# Altium footprint library RC.PcbLib: 63 footprints (part 2 of 4)
Each footprint in its own frame and in the unit in brackets; x right, y up, seen from the top. Pads: shape width x height; smd on the part's side, far side on the other; paste and mask are expansions set on the pad; w line width, h text height; cw(c..) or ccw(c..) is an arc to the next point about the centre after c.
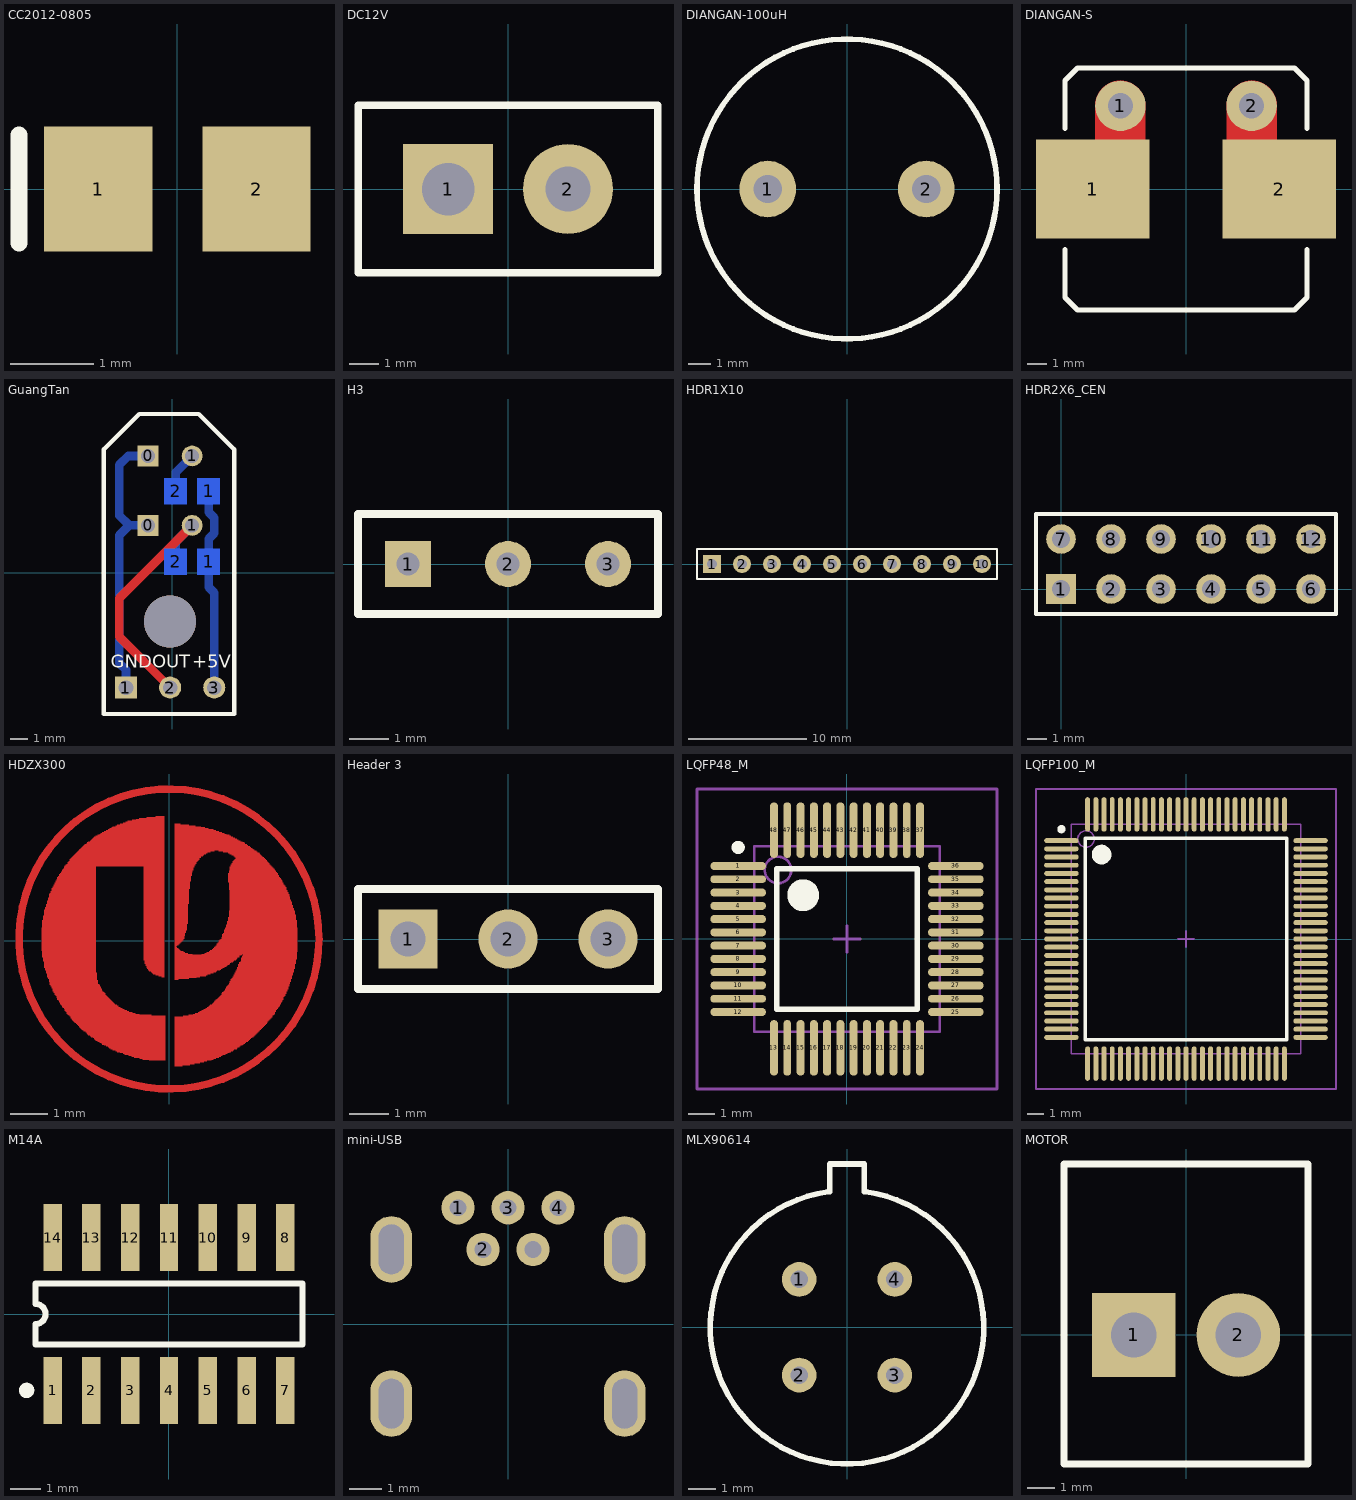
[diagram p1: the footprints below, top view; thin cyan lines are the x and y axes]

## CC2012-0805 [mm]
pads (2):
  rect 1.3x1.5 smd: 1(-0.95,0) 2(0.95,0)
Top Overlay:
  lines w0.2: -1.9,-0.65 -1.9,0.65

## DC12V [mil]
pads (2):
  rect 120x120 hole 70: 1(-80,0)
  round 120 hole 60: 2(80,0)
Top Overlay:
  lines w10: -200,-112 200,-112 200,112 -200,112 -200,-112

## DIANGAN-100uH [mil]
pads (2):
  round 100 hole 50: 1(-140,0) 2(140,0)
Top Overlay:
  circle w10: c0,0 r265

## DIANGAN-S [mil]
pads (4):
  rect 225x196.85 smd: 1(-185,0) 2(185,0)
  round 100 hole 50: 1(-130,165) 2(130,165)
Top Layer:
  lines w100: -130,0 -130,165 ; 130,0 130,165
Top Overlay:
  lines w10: -240,-120 -240,-215 -215,-240 215,-240 240,-215 240,-120 ; -240,120 -240,215 -215,240 215,240 240,215 240,120

## GuangTan [mm]
pads (11):
  rect 1.2x1.2 hole 0.8: 0(-1.397,2.731) 0(-1.397,6.731)
  rect 1.27x1.27 hole 0.838: 1(-2.667,-6.604)
  round 1.2 hole 0.8: 1(1.143,2.731) 1(1.143,6.731)
  rect 1.3x1.5 smd far side: 1(2.093,0.635) 1(2.093,4.699) 2(0.193,0.635) 2(0.193,4.699)
  round 1.27 hole 0.838: 2(-0.127,-6.604) 3(2.413,-6.604)
via -0.127,-2.794 diameter 3 hole 3
Top Layer:
  lines w0.5: -0.127,-6.604 -3.048,-3.683 -3.048,-1.46 1.143,2.731
Bottom Layer:
  lines w0.5: -2.667,-6.604 -2.667,-5.588 -3.048,-5.207 -3.048,2.16 -2.477,2.731 ; -1.397,2.731 -2.477,2.731 ; -1.397,6.731 -2.54,6.731 -3.048,6.223 -3.048,3.302 -2.477,2.731 ; 0.193,0.635 0.193,1.781 1.143,2.731 ; 0.193,4.699 0.193,5.776 1.143,6.726 1.143,6.731 ; 2.093,4.699 2.093,3.495 2.413,3.175 2.413,2.286 2.093,1.966 2.093,0.635 2.093,-0.823 2.413,-1.143 2.413,-6.604
Top Overlay:
  lines w0.254: -3.937,-8.128 -3.937,7.112 -1.905,9.144 1.524,9.144 3.556,7.112 3.556,6.731 3.556,-8.128 -3.937,-8.128
  text "GND" at -3.556,-5.461 h0.76
  text "OUT" at -1.143,-5.461 h0.76
  text "+5V" at 1.143,-5.461 h0.76
Bottom Overlay:
  lines w0.2: 0.743,-0.515 -0.857,-0.515 -0.857,1.785 0.743,1.785 ; 0.743,3.549 -0.857,3.549 -0.857,5.849 0.743,5.849 ; 1.543,-0.515 3.143,-0.515 3.143,1.785 1.543,1.785 ; 1.543,3.549 3.143,3.549 3.143,5.849 1.543,5.849
  text "103" at -2.54,-0.381 h0.76
  text "331" at -2.54,3.81 h0.76

## H3 [mil]
pads (3):
  rect 46x46 hole 23: 1(-100,0)
  round 46 hole 23: 2(0,0) 3(100,0)
Top Overlay:
  lines w7.87: -150,-50 150,-50 150,50 -150,50 -150,-50

## HDR1X10 [mil] "Connector; Header; 10 Position"
pads (10):
  rect 60x60 hole 33: 1(-450,0)
  round 60 hole 33: 2(-350,0) 3(-250,0) 4(-150,0) 5(-50,0) 6(50,0) 7(150,0) 8(250,0) 9(350,0) 10(450,0)
Top Overlay:
  lines w7.87: -500,-50 -500,50 -425,50 500,50 500,-50 -500,-50

## HDR2X6_CEN [mm]
pads (12):
  rect 1.5x1.5 hole 0.9: 1(0,0)
  round 1.5 hole 0.9: 2(2.54,0) 3(5.08,0) 4(7.62,0) 5(10.16,0) 6(12.7,0) 7(0,2.54) 8(2.54,2.54) 9(5.08,2.54) 10(7.62,2.54) 11(10.16,2.54) 12(12.7,2.54)
Top Overlay:
  lines w0.2: -1.27,-1.27 13.97,-1.27 13.97,3.81 -1.27,3.81 -1.27,-1.27

## HDZX300 [mm]
Top Layer:
  circle w0.203: c0,0.051 r4.064
  lines w0.025: -3.454,-0.254 -1.981,-0.254 ; -3.454,-0.229 -1.981,-0.229 ; -3.454,-0.203 -1.981,-0.203 ; -3.454,-0.178 -1.981,-0.178 ; -3.454,-0.152 -1.981,-0.152 ; -3.454,-0.127 -1.981,-0.127 ; -3.454,-0.102 -1.981,-0.102 ; -3.454,-0.076 -1.981,-0.076 ; -3.454,-0.051 -1.981,-0.051 ; -3.454,-0.025 -1.981,-0.025 ; -3.454,0 -1.981,0 ; -3.454,0.025 -1.981,0.025 ; -3.454,0.051 -1.981,0.051 ; -3.454,0.076 -1.981,0.076 ; -3.454,0.102 -1.981,0.102 ; -3.454,0.127 -1.981,0.127 ; -3.454,0.152 -1.981,0.152 ; -3.454,0.178 -1.981,0.178 ; -3.454,0.203 -1.981,0.203 ; -3.454,0.229 -1.981,0.229 ; -3.454,0.254 -1.981,0.254 ; -3.454,0.279 -1.981,0.279 ; -3.454,0.305 -1.981,0.305 ; -3.454,0.33 -1.981,0.33 ; -3.454,0.356 -1.981,0.356 ; -3.429,-0.432 -1.981,-0.432 ; -3.429,-0.406 -1.981,-0.406 ; -3.429,-0.381 -1.981,-0.381 ; -3.429,-0.356 -1.981,-0.356 ; -3.429,-0.33 -1.981,-0.33 ; -3.429,-0.305 -1.981,-0.305 ; -3.429,-0.279 -1.981,-0.279 ; -3.429,0.381 -1.981,0.381 ; -3.429,0.406 -1.981,0.406 ; -3.429,0.432 -1.981,0.432 ; -3.429,0.457 -1.981,0.457 ; -3.429,0.483 -1.981,0.483 ; -3.429,0.508 -1.981,0.508 ; -3.429,0.533 -1.981,0.533 ; -3.429,0.559 -1.981,0.559 ; -3.404,-0.533 -1.981,-0.533 ; -3.404,-0.508 -1.981,-0.508 ; -3.404,-0.483 -1.981,-0.483 ; -3.404,-0.457 -1.981,-0.457 ; -3.404,0.584 -1.981,0.584 ; -3.404,0.61 -1.981,0.61 ; -3.404,0.635 -1.981,0.635 ; -3.404,0.66 -1.981,0.66 ; -3.404,0.686 -1.981,0.686 ; -3.378,-0.711 -1.981,-0.711 ; -3.378,-0.686 -1.981,-0.686 ; -3.378,-0.66 -1.981,-0.66 ; -3.378,-0.635 -1.981,-0.635 ; -3.378,-0.61 -1.981,-0.61 ; -3.378,-0.584 -1.981,-0.584 ; -3.378,-0.559 -1.981,-0.559 ; -3.378,0.711 -1.981,0.711 ; -3.378,0.737 -1.981,0.737 ; -3.378,0.762 -1.981,0.762 ; -3.378,0.787 -1.981,0.787 ; -3.378,0.813 -1.981,0.813 ; -3.378,0.838 -1.981,0.838 ; -3.353,-0.787 -1.981,-0.787 ; -3.353,-0.762 -1.981,-0.762 ; -3.353,-0.737 -1.981,-0.737 ; -3.353,0.864 -1.981,0.864 ; -3.353,0.889 -1.981,0.889 ; -3.353,0.914 -1.981,0.914 ; -3.327,-0.864 -1.956,-0.864 ; -3.327,-0.838 -1.981,-0.838 ; -3.327,-0.813 -1.981,-0.813 ; -3.327,0.94 -1.981,0.94 ; -3.327,0.965 -1.981,0.965 ; -3.327,0.991 -1.981,0.991 ; -3.302,-0.965 -1.956,-0.965 ; -3.302,-0.94 -1.956,-0.94 ; -3.302,-0.914 -1.956,-0.914 ; -3.302,-0.889 -1.956,-0.889 ; -3.302,1.016 -1.981,1.016 ; -3.302,1.041 -1.981,1.041 ; -3.302,1.067 -1.981,1.067 ; -3.302,1.092 -1.981,1.092 ; -3.277,-1.016 -1.956,-1.016 ; -3.277,-0.991 -1.956,-0.991 ; -3.277,1.118 -1.981,1.118 ; -3.277,1.143 -1.981,1.143 ; -3.277,1.168 -1.981,1.168 ; -3.251,-1.092 -1.93,-1.092 ; -3.251,-1.067 -1.93,-1.067 ; -3.251,-1.041 -1.956,-1.041 ; -3.251,1.194 -1.981,1.194 ; -3.251,1.219 -1.981,1.219 ; -3.251,1.245 -1.981,1.245 ; -3.251,1.27 -1.981,1.27 ; -3.226,-1.168 -1.905,-1.168 ; -3.226,-1.143 -1.93,-1.143 ; -3.226,-1.118 -1.93,-1.118 ; -3.226,1.295 -1.981,1.295 ; -3.2,-1.219 -1.88,-1.219 ; -3.2,-1.194 -1.88,-1.194 ; -3.2,1.321 -1.981,1.321 ; -3.2,1.346 -1.981,1.346 ; -3.175,-1.27 -1.854,-1.27 ; -3.175,-1.245 -1.854,-1.245 ; -3.175,1.372 -1.981,1.372 ; -3.175,1.397 -1.981,1.397 ; -3.175,1.422 -1.981,1.422 ; -3.15,-1.346 -1.803,-1.346 ; -3.15,-1.321 -1.829,-1.321 ; -3.15,-1.295 -1.829,-1.295 ; -3.15,1.448 -1.981,1.448 ; -3.15,1.473 -1.981,1.473 ; -3.124,-1.397 -1.753,-1.397 ; -3.124,-1.372 -1.778,-1.372 ; -3.124,1.499 -1.981,1.499 ; -3.124,1.524 -1.981,1.524 ; -3.099,-1.448 -1.727,-1.448 ; -3.099,-1.422 -1.727,-1.422 ; -3.099,1.549 -1.981,1.549 ; -3.099,1.575 -1.981,1.575 ; -3.073,-1.473 -1.702,-1.473 ; -3.073,1.6 -1.981,1.6 ; -3.073,1.626 -1.981,1.626 ; -3.048,-1.524 -1.651,-1.524 ; -3.048,-1.499 -1.676,-1.499 ; -3.048,1.651 -1.981,1.651 ; -3.048,1.676 -1.981,1.676 ; -3.023,-1.575 -1.6,-1.575 ; -3.023,-1.549 -1.626,-1.549 ; -3.023,1.702 -1.981,1.702 ; -3.023,1.727 -1.981,1.727 ; -2.997,-1.6 -1.575,-1.6 ; -2.997,1.753 -1.981,1.753 ; -2.972,-1.651 -1.524,-1.651 ; -2.972,-1.626 -1.549,-1.626 ; -2.972,1.778 -1.981,1.778 ; -2.972,1.803 -1.981,1.803 ; -2.946,-1.702 -1.473,-1.702 ; -2.946,-1.676 -1.499,-1.676 ; -2.946,1.829 -1.981,1.829 ; -2.921,-1.727 -1.422,-1.727 ; -2.921,1.854 -1.981,1.854 ; -2.921,1.88 -1.981,1.88 ; -2.896,-1.778 -1.372,-1.778 ; -2.896,-1.753 -1.372,-1.753 ; -2.896,1.905 -1.981,1.905 ; -2.896,1.93 -1.981,1.93 ; -2.87,-1.803 -1.321,-1.803 ; -2.87,1.956 -1.981,1.956 ; -2.845,-1.829 -1.27,-1.829 ; -2.845,1.981 -1.981,1.981 ; -2.845,2.007 -1.981,2.007 ; -2.819,-1.88 -1.143,-1.88 ; -2.819,-1.854 -1.219,-1.854 ; -2.819,2.032 -0.127,2.032 ; -2.794,-1.905 -1.092,-1.905 ; -2.794,2.057 -0.127,2.057 ; -2.769,-1.956 -0.914,-1.956 ; -2.769,-1.93 -0.991,-1.93 ; -2.769,2.083 -0.127,2.083 ; -2.743,-1.981 -0.813,-1.981 ; -2.743,2.108 -0.127,2.108 ; -2.743,2.134 -0.127,2.134 ; -2.718,-2.007 -0.483,-2.007 ; -2.718,2.159 -0.127,2.159 ; -2.692,-2.032 -0.102,-2.032 ; -2.692,2.184 -0.127,2.184 ; -2.692,2.21 -0.127,2.21 ; -2.667,-2.083 -0.102,-2.083 ; -2.667,-2.057 -0.102,-2.057 ; -2.667,2.235 -0.127,2.235 ; -2.642,-2.108 -0.102,-2.108 ; -2.642,2.261 -0.127,2.261 ; -2.616,-2.134 -0.102,-2.134 ; -2.616,2.286 -0.127,2.286 ; -2.591,-2.159 -0.102,-2.159 ; -2.591,2.311 -0.127,2.311 ; -2.565,-2.184 -0.102,-2.184 ; -2.565,2.337 -0.127,2.337 ; -2.54,-2.21 -0.102,-2.21 ; -2.54,2.362 -0.127,2.362 ; -2.515,-2.235 -0.102,-2.235 ; -2.515,2.388 -0.127,2.388 ; -2.489,-2.261 -0.102,-2.261 ; -2.489,2.413 -0.127,2.413 ; -2.464,-2.286 -0.102,-2.286 ; -2.464,2.438 -0.127,2.438 ; -2.438,-2.311 -0.102,-2.311 ; -2.438,2.464 -0.127,2.464 ; -2.413,-2.337 -0.102,-2.337 ; -2.413,2.489 -0.127,2.489 ; -2.388,-2.362 -0.102,-2.362 ; -2.388,2.515 -0.127,2.515 ; -2.362,-2.388 -0.102,-2.388 ; -2.362,2.54 -0.127,2.54 ; -2.337,-2.413 -0.102,-2.413 ; -2.337,2.565 -0.127,2.565 ; -2.311,-2.438 -0.102,-2.438 ; -2.311,2.591 -0.127,2.591 ; -2.286,2.616 -0.127,2.616 ; -2.261,-2.464 -0.102,-2.464 ; -2.235,-2.489 -0.102,-2.489 ; -2.235,2.642 -0.127,2.642 ; -2.21,-2.515 -0.102,-2.515 ; -2.21,2.667 -0.127,2.667 ; -2.184,-2.54 -0.102,-2.54 ; -2.184,2.692 -0.127,2.692 ; -2.134,-2.565 -0.102,-2.565 ; -2.134,2.718 -0.127,2.718 ; -2.108,-2.591 -0.102,-2.591 ; -2.108,2.743 -0.127,2.743 ; -2.083,2.769 -0.127,2.769 ; -2.057,-2.616 -0.102,-2.616 ; -2.057,2.794 -0.127,2.794 ; -2.032,-2.642 -0.102,-2.642 ; -2.032,2.819 -0.127,2.819 ; -2.007,-2.667 -0.102,-2.667 ; -1.981,-2.692 -0.102,-2.692 ; -1.981,2.845 -0.127,2.845 ; -1.93,-2.718 -0.102,-2.718 ; -1.93,2.87 -0.127,2.87 ; -1.88,-2.743 -0.102,-2.743 ; -1.88,2.896 -0.127,2.896 ; -1.854,2.921 -0.127,2.921 ; -1.829,-2.769 -0.102,-2.769 ; -1.803,-2.794 -0.102,-2.794 ; -1.803,2.946 -0.127,2.946 ; -1.753,-2.819 -0.102,-2.819 ; -1.753,2.972 -0.127,2.972 ; -1.702,-2.845 -0.102,-2.845 ; -1.702,2.997 -0.127,2.997 ; -1.651,-2.87 -0.102,-2.87 ; -1.651,3.023 -0.127,3.023 ; -1.626,-2.896 -0.102,-2.896 ; -1.6,3.048 -0.127,3.048 ; -1.575,-2.921 -0.102,-2.921 ; -1.549,3.073 -0.127,3.073 ; -1.524,-2.946 -0.102,-2.946 ; -1.524,3.099 -0.127,3.099 ; -1.448,-2.972 -0.102,-2.972 ; -1.448,3.124 -0.127,3.124 ; -1.397,-2.997 -0.102,-2.997 ; -1.397,3.15 -0.127,3.15 ; -1.321,-3.023 -0.102,-3.023 ; -1.321,3.175 -0.127,3.175 ; -1.245,-3.048 -0.102,-3.048 ; -1.245,3.2 -0.127,3.2 ; -1.194,-3.073 -0.102,-3.073 ; -1.168,3.226 -0.127,3.226 ; -1.118,3.251 -0.127,3.251 ; -1.092,-3.099 -0.102,-3.099 ; -1.016,-3.124 -0.102,-3.124 ; -0.991,3.277 -0.127,3.277 ; -0.94,-3.15 -0.102,-3.15 ; -0.889,3.302 -0.127,3.302 ; -0.813,3.327 -0.127,3.327 ; -0.787,-3.175 -0.102,-3.175 ; -0.711,-3.2 -0.102,-3.2 ; -0.686,-0.508 -0.127,-0.508 ; -0.686,-0.483 -0.127,-0.483 ; -0.686,-0.457 -0.127,-0.457 ; -0.686,-0.432 -0.127,-0.432 ; -0.686,-0.406 -0.127,-0.406 ; -0.686,-0.381 -0.127,-0.381 ; -0.686,-0.356 -0.127,-0.356 ; -0.686,-0.33 -0.127,-0.33 ; -0.686,-0.305 -0.127,-0.305 ; -0.686,-0.279 -0.127,-0.279 ; -0.686,-0.254 -0.127,-0.254 ; -0.686,-0.229 -0.127,-0.229 ; -0.686,-0.203 -0.127,-0.203 ; -0.686,-0.178 -0.127,-0.178 ; -0.686,-0.152 -0.127,-0.152 ; -0.686,-0.127 -0.127,-0.127 ; -0.686,-0.102 -0.127,-0.102 ; -0.686,-0.076 -0.127,-0.076 ; -0.686,-0.051 -0.127,-0.051 ; -0.686,-0.025 -0.127,-0.025 ; -0.686,0 -0.127,0 ; -0.686,0.025 -0.127,0.025 ; -0.686,0.051 -0.127,0.051 ; -0.686,0.076 -0.127,0.076 ; -0.686,0.102 -0.127,0.102 ; -0.686,0.127 -0.127,0.127 ; -0.686,0.152 -0.127,0.152 ; -0.686,0.178 -0.127,0.178 ; -0.686,0.203 -0.127,0.203 ; -0.686,0.229 -0.127,0.229 ; -0.686,0.254 -0.127,0.254 ; -0.686,0.279 -0.127,0.279 ; -0.686,0.305 -0.127,0.305 ; -0.686,0.33 -0.127,0.33 ; -0.686,0.356 -0.127,0.356 ; -0.686,0.381 -0.127,0.381 ; -0.686,0.406 -0.127,0.406 ; -0.686,0.432 -0.127,0.432 ; -0.686,0.457 -0.127,0.457 ; -0.686,0.483 -0.127,0.483 ; -0.686,0.508 -0.127,0.508 ; -0.686,0.533 -0.127,0.533 ; -0.686,0.559 -0.127,0.559 ; -0.686,0.584 -0.127,0.584 ; -0.686,0.61 -0.127,0.61 ; -0.686,0.635 -0.127,0.635 ; -0.686,0.66 -0.127,0.66 ; -0.686,0.686 -0.127,0.686 ; -0.686,0.711 -0.127,0.711 ; -0.686,0.737 -0.127,0.737 ; -0.686,0.762 -0.127,0.762 ; -0.686,0.787 -0.127,0.787 ; -0.686,0.813 -0.127,0.813 ; -0.686,0.838 -0.127,0.838 ; -0.686,0.864 -0.127,0.864 ; -0.686,0.889 -0.127,0.889 ; -0.686,0.914 -0.127,0.914 ; -0.686,0.94 -0.127,0.94 ; -0.686,0.965 -0.127,0.965 ; -0.686,0.991 -0.127,0.991 ; -0.686,1.016 -0.127,1.016 ; -0.686,1.041 -0.127,1.041 ; -0.686,1.067 -0.127,1.067 ; -0.686,1.092 -0.127,1.092 ; -0.686,1.118 -0.127,1.118 ; -0.686,1.143 -0.127,1.143 ; -0.686,1.168 -0.127,1.168 ; -0.686,1.194 -0.127,1.194 ; -0.686,1.219 -0.127,1.219 ; -0.686,1.245 -0.127,1.245 ; -0.686,1.27 -0.127,1.27 ; -0.686,1.295 -0.127,1.295 ; -0.686,1.321 -0.127,1.321 ; -0.686,1.346 -0.127,1.346 ; -0.686,1.372 -0.127,1.372 ; -0.686,1.397 -0.127,1.397 ; -0.686,1.422 -0.127,1.422 ; -0.686,1.448 -0.127,1.448 ; -0.686,1.473 -0.127,1.473 ; -0.686,1.499 -0.127,1.499 ; -0.686,1.524 -0.127,1.524 ; -0.686,1.549 -0.127,1.549 ; -0.686,1.575 -0.127,1.575 ; -0.686,1.6 -0.127,1.6 ; -0.686,1.626 -0.127,1.626 ; -0.686,1.651 -0.127,1.651 ; -0.686,1.676 -0.127,1.676 ; -0.686,1.702 -0.127,1.702 ; -0.686,1.727 -0.127,1.727 ; -0.686,1.753 -0.127,1.753 ; -0.686,1.778 -0.127,1.778 ; -0.686,1.803 -0.127,1.803 ; -0.686,1.829 -0.127,1.829 ; -0.686,1.854 -0.127,1.854 ; -0.686,1.88 -0.127,1.88 ; -0.686,1.905 -0.127,1.905 ; -0.686,1.93 -0.127,1.93 ; -0.686,1.956 -0.127,1.956 ; -0.686,1.981 -0.127,1.981 ; -0.686,2.007 -0.127,2.007 ; -0.66,-0.61 -0.127,-0.61 ; -0.66,-0.584 -0.127,-0.584 ; -0.66,-0.559 -0.127,-0.559 ; -0.66,-0.533 -0.127,-0.533 ; -0.635,-0.66 -0.127,-0.66 ; -0.635,-0.635 -0.127,-0.635 ; -0.61,-0.711 -0.127,-0.711 ; -0.61,-0.686 -0.127,-0.686 ; -0.61,3.353 -0.127,3.353 ; -0.584,-0.737 -0.127,-0.737 ; -0.559,-0.787 -0.127,-0.787 ; -0.559,-0.762 -0.127,-0.762 ; -0.533,-3.226 -0.102,-3.226 ; -0.533,-0.813 -0.127,-0.813 ; -0.483,-0.838 -0.127,-0.838 ; -0.457,-0.864 -0.127,-0.864 ; -0.432,-0.889 -0.127,-0.889 ; -0.356,-0.914 -0.127,-0.914 ; -0.356,3.378 -0.127,3.378 ; -0.279,-0.94 -0.127,-0.94 ; -0.203,-0.965 -0.127,-0.965 ; 0.152,-3.378 0.356,-3.378 ; 0.152,-3.353 0.559,-3.353 ; 0.152,-3.327 0.686,-3.327 ; 0.152,-3.302 0.838,-3.302 ; 0.152,-3.277 0.94,-3.277 ; 0.152,-3.251 1.016,-3.251 ; 0.152,-3.226 1.143,-3.226 ; 0.152,-3.2 1.194,-3.2 ; 0.152,-3.175 1.27,-3.175 ; 0.152,-3.15 1.346,-3.15 ; 0.152,-3.124 1.397,-3.124 ; 0.152,-3.099 1.448,-3.099 ; 0.152,-3.073 1.524,-3.073 ; 0.152,-3.048 1.575,-3.048 ; 0.152,-3.023 1.626,-3.023 ; 0.152,-2.997 1.676,-2.997 ; 0.152,-2.972 1.727,-2.972 ; 0.152,-2.946 1.753,-2.946 ; 0.152,-2.921 1.829,-2.921 ; 0.152,-2.896 1.854,-2.896 ; 0.152,-2.87 1.905,-2.87 ; 0.152,-2.845 1.93,-2.845 ; 0.152,-2.819 1.981,-2.819 ; 0.152,-2.794 2.007,-2.794 ; 0.152,-2.769 2.057,-2.769 ; 0.152,-2.743 2.083,-2.743 ; 0.152,-2.718 2.134,-2.718 ; 0.152,-2.692 2.159,-2.692 ; 0.152,-2.667 2.184,-2.667 ; 0.152,-2.642 2.21,-2.642 ; 0.152,-2.616 2.235,-2.616 ; 0.152,-2.591 2.286,-2.591 ; 0.152,-2.565 2.311,-2.565 ; 0.152,-2.54 2.337,-2.54 ; 0.152,-2.515 2.362,-2.515 ; 0.152,-2.489 2.388,-2.489 ; 0.152,-2.464 2.413,-2.464 ; 0.152,-2.438 2.438,-2.438 ; 0.152,-2.413 2.464,-2.413 ; 0.152,-2.388 2.489,-2.388 ; 0.152,-2.362 2.515,-2.362 ; 0.152,-2.337 2.54,-2.337 ; 0.152,-2.311 2.565,-2.311 ; 0.152,-2.286 2.591,-2.286 ; 0.152,-2.261 2.616,-2.261 ; 0.152,-2.235 2.642,-2.235 ; 0.152,-2.21 2.667,-2.21 ; 0.152,-2.184 2.667,-2.184 ; 0.152,-2.159 2.692,-2.159 ; 0.152,-2.134 2.718,-2.134 ; 0.152,-2.108 2.743,-2.108 ; 0.152,-2.083 2.769,-2.083 ; 0.152,-2.057 2.794,-2.057 ; 0.152,-1.041 0.254,-1.041 ; 0.152,-1.016 0.533,-1.016 ; 0.152,-0.991 0.737,-0.991 ; 0.152,-0.965 0.838,-0.965 ; 0.152,-0.94 0.991,-0.94 ; 0.152,-0.914 1.041,-0.914 ; 0.152,-0.889 1.118,-0.889 ; 0.152,-0.864 1.194,-0.864 ; 0.152,-0.838 1.27,-0.838 ; 0.152,-0.813 1.295,-0.813 ; 0.152,-0.787 1.372,-0.787 ; 0.152,-0.762 1.397,-0.762 ; 0.152,-0.737 1.448,-0.737 ; 0.152,-0.711 1.499,-0.711 ; 0.152,-0.686 1.549,-0.686 ; 0.152,-0.66 1.575,-0.66 ; 0.152,-0.635 1.626,-0.635 ; 0.152,-0.61 1.651,-0.61 ; 0.152,-0.584 1.676,-0.584 ; 0.152,-0.559 1.727,-0.559 ; 0.152,-0.533 1.753,-0.533 ; 0.152,-0.508 1.803,-0.508 ; 0.152,-0.483 1.829,-0.483 ; 0.152,-0.457 1.854,-0.457 ; 0.152,-0.432 1.905,-0.432 ; 0.152,-0.406 1.905,-0.406 ; 0.152,-0.381 1.956,-0.381 ; 0.152,-0.356 0.635,-0.356 ; 0.152,-0.33 0.508,-0.33 ; 0.152,-0.305 0.432,-0.305 ; 0.152,-0.279 0.381,-0.279 ; 0.152,-0.254 0.305,-0.254 ; 0.152,-0.229 0.279,-0.229 ; 0.152,-0.203 0.254,-0.203 ; 0.152,-0.178 0.203,-0.178 ; 0.152,-0.152 0.178,-0.152 ; 0.152,-0.127 0.203,-0.127 ; 0.152,-0.102 0.254,-0.102 ; 0.152,-0.076 0.279,-0.076 ; 0.152,-0.051 0.305,-0.051 ; 0.152,-0.025 0.33,-0.025 ; 0.152,0 0.356,0 ; 0.152,0.025 0.381,0.025 ; 0.152,0.051 0.381,0.051 ; 0.152,0.076 0.406,0.076 ; 0.152,0.102 0.406,0.102 ; 0.152,0.127 0.406,0.127 ; 0.152,0.152 0.432,0.152 ; 0.152,0.178 0.432,0.178 ; 0.152,0.203 0.432,0.203 ; 0.152,0.229 0.457,0.229 ; 0.152,0.254 0.457,0.254 ; 0.152,0.279 0.457,0.279 ; 0.152,0.305 0.483,0.305 ; 0.152,0.33 0.483,0.33 ; 0.152,0.356 0.483,0.356 ; 0.152,0.381 0.483,0.381 ; 0.152,0.406 0.483,0.406 ; 0.152,0.432 0.483,0.432 ; 0.152,0.457 0.483,0.457 ; 0.152,0.483 0.508,0.483 ; 0.152,0.508 0.508,0.508 ; 0.152,0.533 0.508,0.533 ; 0.152,0.559 0.508,0.559 ; 0.152,0.584 0.508,0.584 ; 0.152,0.61 0.508,0.61 ; 0.152,0.635 0.508,0.635 ; 0.152,0.66 0.508,0.66 ; 0.152,0.686 0.508,0.686 ; 0.152,0.711 0.508,0.711 ; 0.152,0.737 0.508,0.737 ; 0.152,0.762 0.508,0.762 ; 0.152,0.787 0.508,0.787 ; 0.152,0.813 0.508,0.813 ; 0.152,0.838 0.508,0.838 ; 0.152,0.864 0.508,0.864 ; 0.152,0.889 0.508,0.889 ; 0.152,0.914 0.508,0.914 ; 0.152,0.94 0.508,0.94 ; 0.152,0.965 0.508,0.965 ; 0.152,0.991 0.508,0.991 ; 0.152,1.016 0.533,1.016 ; 0.152,1.041 0.533,1.041 ; 0.152,1.067 0.533,1.067 ; 0.152,1.092 0.533,1.092 ; 0.152,1.118 0.533,1.118 ; 0.152,1.143 0.533,1.143 ; 0.152,1.168 0.533,1.168 ; 0.152,1.194 0.533,1.194 ; 0.152,1.219 0.533,1.219 ; 0.152,1.245 0.533,1.245 ; 0.152,1.27 0.533,1.27 ; 0.152,1.295 0.533,1.295 ; 0.152,1.321 0.533,1.321 ; 0.152,1.346 0.533,1.346 ; 0.152,1.372 0.533,1.372 ; 0.152,1.397 0.533,1.397 ; 0.152,1.422 0.559,1.422 ; 0.152,1.448 0.559,1.448 ; 0.152,1.473 0.559,1.473 ; 0.152,1.499 0.559,1.499 ; 0.152,1.524 0.559,1.524 ; 0.152,1.549 0.559,1.549 ; 0.152,1.575 0.559,1.575 ; 0.152,1.6 0.559,1.6 ; 0.152,1.626 0.584,1.626 ; 0.152,1.651 0.584,1.651 ; 0.152,1.676 0.584,1.676 ; 0.152,1.702 0.584,1.702 ; 0.152,1.727 0.584,1.727 ; 0.152,1.753 0.584,1.753 ; 0.152,1.778 0.61,1.778 ; 0.152,1.803 0.61,1.803 ; 0.152,1.829 0.61,1.829 ; 0.152,1.854 0.61,1.854 ; 0.152,1.88 0.635,1.88 ; 0.152,1.905 0.635,1.905 ; 0.152,1.93 0.66,1.93 ; 0.152,1.956 0.66,1.956 ; 0.152,1.981 0.66,1.981 ; 0.152,2.007 0.686,2.007 ; 0.152,2.032 0.686,2.032 ; 0.152,2.057 0.711,2.057 ; 0.152,2.083 0.711,2.083 ; 0.152,2.108 0.737,2.108 ; 0.152,2.134 0.737,2.134 ; 0.152,2.159 0.762,2.159 ; 0.152,2.184 0.787,2.184 ; 0.152,2.21 0.813,2.21 ; 0.152,2.235 0.813,2.235 ; 0.152,2.261 0.864,2.261 ; 0.152,2.286 0.864,2.286 ; 0.152,2.311 0.914,2.311 ; 0.152,2.337 0.94,2.337 ; 0.152,2.362 0.991,2.362 ; 0.152,2.388 1.041,2.388 ; 0.152,2.413 1.118,2.413 ; 0.152,2.438 1.219,2.438 ; 0.152,2.464 2.311,2.464 ; 0.152,2.489 2.286,2.489 ; 0.152,2.515 2.261,2.515 ; 0.152,2.54 2.21,2.54 ; 0.152,2.565 2.184,2.565 ; 0.152,2.591 2.134,2.591 ; 0.152,2.616 2.108,2.616 ; 0.152,2.642 2.057,2.642 ; 0.152,2.667 2.032,2.667 ; 0.152,2.692 1.981,2.692 ; 0.152,2.718 1.93,2.718 ; 0.152,2.743 1.88,2.743 ; 0.152,2.769 1.829,2.769 ; 0.152,2.794 1.778,2.794 ; 0.152,2.819 1.727,2.819 ; 0.152,2.845 1.676,2.845 ; 0.152,2.87 1.626,2.87 ; 0.152,2.896 1.549,2.896 ; 0.152,2.921 1.499,2.921 ; 0.152,2.946 1.422,2.946 ; 0.152,2.972 1.346,2.972 ; 0.152,2.997 1.27,2.997 ; 0.152,3.023 1.194,3.023 ; 0.152,3.048 1.067,3.048 ; 0.152,3.073 0.965,3.073 ; 0.152,3.099 0.864,3.099 ; 0.152,3.124 0.711,3.124 ; 0.152,3.15 0.533,3.15 ; 0.152,3.175 0.305,3.175 ; 0.381,-2.032 2.794,-2.032 ; 0.533,-2.007 2.819,-2.007 ; 0.66,-1.981 2.845,-1.981 ; 0.711,-1.956 2.87,-1.956 ; 0.787,-1.93 2.87,-1.93 ; 0.838,-1.905 2.896,-1.905 ; 0.889,-1.88 2.896,-1.88 ; 0.889,-0.356 1.981,-0.356 ; 0.94,-1.854 2.921,-1.854 ; 0.965,-0.33 3.454,-0.33 ; 0.991,-1.829 2.946,-1.829 ; 1.016,-0.305 3.454,-0.305 ; 1.041,-1.803 2.946,-1.803 ; 1.067,-1.778 2.972,-1.778 ; 1.092,-1.753 2.997,-1.753 ; 1.092,-0.279 3.48,-0.279 ; 1.118,-1.727 2.997,-1.727 ; 1.118,-0.254 3.48,-0.254 ; 1.168,-1.702 3.023,-1.702 ; 1.168,-0.229 3.48,-0.229 ; 1.194,-1.676 3.023,-1.676 ; 1.194,-0.203 3.48,-0.203 ; 1.219,-1.651 3.048,-1.651 ; 1.219,-0.178 3.48,-0.178 ; 1.245,-1.626 3.073,-1.626 ; 1.245,-0.152 3.48,-0.152 ; 1.27,-1.6 3.073,-1.6 ; 1.27,-0.127 3.48,-0.127 ; 1.295,-1.575 3.099,-1.575 ; 1.295,-0.102 3.48,-0.102 ; 1.295,-0.076 3.48,-0.076 ; 1.321,-1.549 3.099,-1.549 ; 1.321,-0.051 3.48,-0.051 ; 1.346,-1.524 3.099,-1.524 ; 1.346,-0.025 3.48,-0.025 ; 1.346,0 3.48,0 ; 1.346,2.438 2.362,2.438 ; 1.372,-1.499 3.124,-1.499 ; 1.372,0.025 3.48,0.025 ; 1.397,-1.473 3.15,-1.473 ; 1.397,0.051 3.48,0.051 ; 1.422,-1.448 3.15,-1.448 ; 1.422,-1.422 3.175,-1.422 ; 1.422,0.076 3.48,0.076 ; 1.422,0.102 3.48,0.102 ; 1.448,-1.397 3.175,-1.397 ; 1.448,0.127 3.48,0.127 ; 1.448,0.152 3.48,0.152 ; 1.448,0.178 3.48,0.178 ; 1.473,-1.372 3.175,-1.372 ; 1.473,0.203 3.48,0.203 ; 1.473,2.413 2.388,2.413 ; 1.499,-1.346 3.2,-1.346 ; 1.499,0.229 3.48,0.229 ; 1.499,0.254 3.48,0.254 ; 1.499,0.279 3.48,0.279 ; 1.499,0.305 3.48,0.305 ; 1.524,-1.321 3.2,-1.321 ; 1.524,-1.295 3.226,-1.295 ; 1.524,0.33 3.48,0.33 ; 1.524,0.356 3.48,0.356 ; 1.549,-1.27 3.226,-1.27 ; 1.549,-1.245 3.226,-1.245 ; 1.549,0.381 3.454,0.381 ; 1.549,0.406 3.454,0.406 ; 1.549,0.432 3.454,0.432 ; 1.575,-1.219 3.251,-1.219 ; 1.575,0.457 3.454,0.457 ; 1.575,0.483 3.454,0.483 ; 1.575,0.508 3.454,0.508 ; 1.575,0.533 3.454,0.533 ; 1.6,-1.194 3.251,-1.194 ; 1.6,0.559 3.454,0.559 ; 1.6,0.584 3.429,0.584 ; 1.6,0.61 3.429,0.61 ; 1.6,0.635 3.429,0.635 ; 1.6,1.6 3.073,1.6 ; 1.6,1.626 3.073,1.626 ; 1.6,1.651 3.048,1.651 ; 1.6,1.676 3.023,1.676 ; 1.6,1.702 3.023,1.702 ; 1.6,1.727 2.997,1.727 ; 1.6,1.753 2.972,1.753 ; 1.6,1.778 2.972,1.778 ; 1.6,1.803 2.946,1.803 ; 1.6,1.829 2.946,1.829 ; 1.6,2.388 2.438,2.388 ; 1.626,-1.168 3.251,-1.168 ; 1.626,-1.143 3.277,-1.143 ; 1.626,0.66 3.429,0.66 ; 1.626,0.686 3.429,0.686 ; 1.626,0.711 3.429,0.711 ; 1.626,0.737 3.404,0.737 ; 1.626,0.762 3.404,0.762 ; 1.626,0.787 3.404,0.787 ; 1.626,0.813 3.404,0.813 ; 1.626,1.397 3.175,1.397 ; 1.626,1.422 3.175,1.422 ; 1.626,1.448 3.175,1.448 ; 1.626,1.473 3.15,1.473 ; 1.626,1.499 3.15,1.499 ; 1.626,1.524 3.124,1.524 ; 1.626,1.549 3.099,1.549 ; 1.626,1.575 3.099,1.575 ; 1.626,1.854 2.921,1.854 ; 1.626,1.88 2.896,1.88 ; 1.626,1.905 2.896,1.905 ; 1.651,-1.118 3.277,-1.118 ; 1.651,-1.092 3.302,-1.092 ; 1.651,0.838 3.378,0.838 ; 1.651,0.864 3.378,0.864 ; 1.651,0.889 3.378,0.889 ; 1.651,0.914 3.353,0.914 ; 1.651,0.94 3.353,0.94 ; 1.651,0.965 3.353,0.965 ; 1.651,0.991 3.327,0.991 ; 1.651,1.016 3.327,1.016 ; 1.651,1.041 3.327,1.041 ; 1.651,1.067 3.327,1.067 ; 1.651,1.092 3.302,1.092 ; 1.651,1.118 3.302,1.118 ; 1.651,1.143 3.277,1.143 ; 1.651,1.168 3.277,1.168 ; 1.651,1.194 3.277,1.194 ; 1.651,1.219 3.251,1.219 ; 1.651,1.245 3.251,1.245 ; 1.651,1.27 3.251,1.27 ; 1.651,1.295 3.226,1.295 ; 1.651,1.321 3.226,1.321 ; 1.651,1.346 3.2,1.346 ; 1.651,1.372 3.2,1.372 ; 1.651,1.93 2.87,1.93 ; 1.651,1.956 2.845,1.956 ; 1.651,1.981 2.819,1.981 ; 1.651,2.007 2.794,2.007 ; 1.651,2.362 2.464,2.362 ; 1.676,-1.067 3.302,-1.067 ; 1.676,-1.041 3.302,-1.041 ; 1.676,2.032 2.769,2.032 ; 1.676,2.057 2.743,2.057 ; 1.702,-1.016 3.327,-1.016 ; 1.702,2.083 2.718,2.083 ; 1.702,2.108 2.718,2.108 ; 1.702,2.337 2.489,2.337 ; 1.727,-0.991 3.327,-0.991 ; 1.727,-0.965 3.327,-0.965 ; 1.727,2.134 2.692,2.134 ; 1.727,2.159 2.667,2.159 ; 1.753,-0.94 3.327,-0.94 ; 1.753,-0.914 3.353,-0.914 ; 1.753,2.184 2.642,2.184 ; 1.753,2.311 2.515,2.311 ; 1.778,-0.889 3.353,-0.889 ; 1.778,-0.864 3.353,-0.864 ; 1.778,2.21 2.616,2.21 ; 1.778,2.286 2.54,2.286 ; 1.803,-0.838 3.378,-0.838 ; 1.803,-0.813 3.378,-0.813 ; 1.803,2.235 2.591,2.235 ; 1.803,2.261 2.565,2.261 ; 1.829,-0.787 3.378,-0.787 ; 1.829,-0.762 3.378,-0.762 ; 1.854,-0.737 3.404,-0.737 ; 1.854,-0.711 3.404,-0.711 ; 1.88,-0.686 3.404,-0.686 ; 1.88,-0.66 3.404,-0.66 ; 1.88,-0.635 3.404,-0.635 ; 1.905,-0.61 3.429,-0.61 ; 1.905,-0.584 3.429,-0.584 ; 1.93,-0.559 3.429,-0.559 ; 1.956,-0.533 3.429,-0.533 ; 1.956,-0.508 3.429,-0.508 ; 1.956,-0.483 3.454,-0.483 ; 1.956,-0.457 3.454,-0.457 ; 1.981,-0.432 3.454,-0.432 ; 1.981,-0.406 3.454,-0.406 ; 2.007,-0.381 3.454,-0.381 ; 2.007,-0.356 3.454,-0.356
Top Solder:
  circle w4.318: c0,0.051 r2.159

## Header 3 [mm]
pads (3):
  rect 1.5x1.5 hole 0.9: 1(-2.54,0)
  round 1.5 hole 0.9: 2(0,0) 3(2.54,0)
Top Overlay:
  lines w0.2: -3.81,-1.27 3.81,-1.27 3.81,1.27 -3.81,1.27 -3.81,-1.27

## LQFP48_M [mm] "Thin QFP, 48-Leads, Body 7x7mm, Pitch 0.5mm, IPC Low Density"
height 1.6
pads (48):
  oval 2.1x0.3 smd: 1(-4.1,2.75) 2(-4.1,2.25) 3(-4.1,1.75) 4(-4.1,1.25) 5(-4.1,0.75) 6(-4.1,0.25) 7(-4.1,-0.25) 8(-4.1,-0.75) 9(-4.1,-1.25) 10(-4.1,-1.75) 11(-4.1,-2.25) 12(-4.1,-2.75) 25(4.1,-2.75) 26(4.1,-2.25) 27(4.1,-1.75) 28(4.1,-1.25) 29(4.1,-0.75) 30(4.1,-0.25) 31(4.1,0.25) 32(4.1,0.75) 33(4.1,1.25) 34(4.1,1.75) 35(4.1,2.25) 36(4.1,2.75)
  oval 0.3x2.1 smd: 13(-2.75,-4.1) 14(-2.25,-4.1) 15(-1.75,-4.1) 16(-1.25,-4.1) 17(-0.75,-4.1) 18(-0.25,-4.1) 19(0.25,-4.1) 20(0.75,-4.1) 21(1.25,-4.1) 22(1.75,-4.1) 23(2.25,-4.1) 24(2.75,-4.1) 37(2.75,4.1) 38(2.25,4.1) 39(1.75,4.1) 40(1.25,4.1) 41(0.75,4.1) 42(0.25,4.1) 43(-0.25,4.1) 44(-0.75,4.1) 45(-1.25,4.1) 46(-1.75,4.1) 47(-2.25,4.1) 48(-2.75,4.1)
Top Overlay:
  circle w0.6: c-1.65,1.65 r0.3
  circle w0.25: c-4.1,3.45 r0.125
  lines w0.2: -2.65,-2.65 2.65,-2.65 2.65,2.65 -2.65,2.65 -2.65,-2.65
Mechanical 13:
  circle w0.1: c-2.6,2.6 r0.5
  lines w0.1: -3.5,-3.5 3.5,-3.5 3.5,3.5 -3.5,3.5 -3.5,-3.5
Mechanical 15:
  lines w0.1: -0.5,0 0.5,0 ; 0,-0.5 0,0.5 ; -5.65,-5.65 5.65,-5.65 5.65,5.65 -5.65,5.65 -5.65,-5.65
3D body: height 1.6, standoff 0, extent -3.5,-3.5 3.5,3.5

## LQFP100_M [mm] "Thin QFP, 100-Leads, Body 14x14mm, Pitch 0.5mm, IPC Low Density"
height 1.6
pads (100):
  oval 2.1x0.3 smd: 1(-7.6,6) 2(-7.6,5.5) 3(-7.6,5) 4(-7.6,4.5) 5(-7.6,4) 6(-7.6,3.5) 7(-7.6,3) 8(-7.6,2.5) 9(-7.6,2) 10(-7.6,1.5) 11(-7.6,1) 12(-7.6,0.5) 13(-7.6,0) 14(-7.6,-0.5) 15(-7.6,-1) 16(-7.6,-1.5) 17(-7.6,-2) 18(-7.6,-2.5) 19(-7.6,-3) 20(-7.6,-3.5) 21(-7.6,-4) 22(-7.6,-4.5) 23(-7.6,-5) 24(-7.6,-5.5) 25(-7.6,-6) 51(7.6,-6) 52(7.6,-5.5) 53(7.6,-5) 54(7.6,-4.5) 55(7.6,-4) 56(7.6,-3.5) 57(7.6,-3) 58(7.6,-2.5) 59(7.6,-2) 60(7.6,-1.5) 61(7.6,-1) 62(7.6,-0.5) 63(7.6,0) 64(7.6,0.5) 65(7.6,1) 66(7.6,1.5) 67(7.6,2) 68(7.6,2.5) 69(7.6,3) 70(7.6,3.5) 71(7.6,4) 72(7.6,4.5) 73(7.6,5) 74(7.6,5.5) 75(7.6,6)
  oval 0.3x2.1 smd: 26(-6,-7.6) 27(-5.5,-7.6) 28(-5,-7.6) 29(-4.5,-7.6) 30(-4,-7.6) 31(-3.5,-7.6) 32(-3,-7.6) 33(-2.5,-7.6) 34(-2,-7.6) 35(-1.5,-7.6) 36(-1,-7.6) 37(-0.5,-7.6) 38(0,-7.6) 39(0.5,-7.6) 40(1,-7.6) 41(1.5,-7.6) 42(2,-7.6) 43(2.5,-7.6) 44(3,-7.6) 45(3.5,-7.6) 46(4,-7.6) 47(4.5,-7.6) 48(5,-7.6) 49(5.5,-7.6) 50(6,-7.6) 76(6,7.6) 77(5.5,7.6) 78(5,7.6) 79(4.5,7.6) 80(4,7.6) 81(3.5,7.6) 82(3,7.6) 83(2.5,7.6) 84(2,7.6) 85(1.5,7.6) 86(1,7.6) 87(0.5,7.6) 88(0,7.6) 89(-0.5,7.6) 90(-1,7.6) 91(-1.5,7.6) 92(-2,7.6) 93(-2.5,7.6) 94(-3,7.6) 95(-3.5,7.6) 96(-4,7.6) 97(-4.5,7.6) 98(-5,7.6) 99(-5.5,7.6) 100(-6,7.6)
Top Overlay:
  circle w0.25: c-7.6,6.7 r0.125
  circle w0.6: c-5.15,5.15 r0.3
  lines w0.2: -6.15,-6.15 -6.15,6.15 6.15,6.15 6.15,-6.15 -6.15,-6.15
Mechanical 13:
  circle w0.1: c-6.1,6.1 r0.5
  lines w0.1: -7,-7 -7,7 7,7 7,-7 -7,-7
Mechanical 15:
  lines w0.1: -0.5,0 0.5,0 ; 0,-0.5 0,0.5 ; -9.15,-9.15 -9.15,9.15 9.15,9.15 9.15,-9.15 -9.15,-9.15
3D body: height 1.6, standoff 0, extent -7,-7 7,7

## M14A [mm]
pads (14):
  rect 0.6x2.2 smd: 1(-3.81,-2.5) 2(-2.54,-2.5) 3(-1.27,-2.5) 4(0,-2.5) 5(1.27,-2.5) 6(2.54,-2.5) 7(3.81,-2.5) 8(3.81,2.5) 9(2.54,2.5) 10(1.27,2.5) 11(0,2.5) 12(-1.27,2.5) 13(-2.54,2.5) 14(-3.81,2.5)
Top Overlay:
  circle w0.25: c-4.66,-2.5 r0.125
  lines w0.2: -4.375,-1 -4.375,-0.333 ccw(c-4.375,0) -4.375,0.333 -4.375,1 4.375,1 4.375,-1 -4.375,-1

## mini-USB [mil]
pads (9):
  round 40 hole 20: 1(-60,140) 2(-30,90) 3(0,140) 4(60,140) ""(30,90)
  oval 50x80 hole 30 slot 60 at 90 deg: ""(-140,-95) ""(-140,90) ""(140,-95) ""(140,90)

## MLX90614 [mm]
pads (4):
  round 1.27 hole 0.635: 1(-1.75,1.75) 2(-1.75,-1.75) 3(1.75,-1.75) 4(1.75,1.75)
Top Overlay:
  lines w0.203: -0.696,4.951 ccw(c0,0) 0.696,4.951 ; -0.635,4.953 -0.635,5.969 0.635,5.969 0.635,4.953

## MOTOR [mil]
pads (2):
  rect 120x120 hole 65: 1(-75,0)
  round 120 hole 65: 2(75,0)
Top Overlay:
  lines w10: -175,-185 -175,245 175,245 175,-185 -175,-185